# Altium schematic symbol library Micrel Parts.SchLib: 4 symbols
Pins are listed as number, name and electrical type; pins without a type are passive.

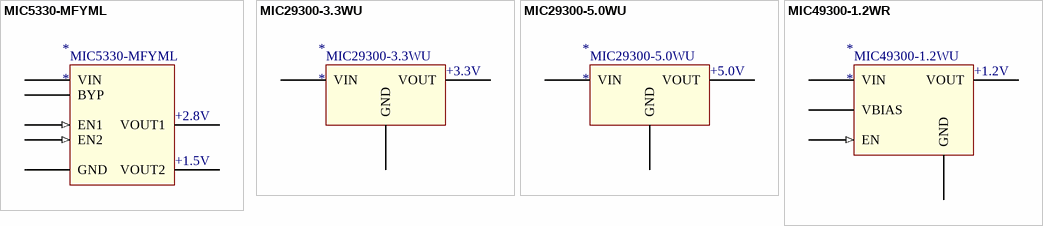
[diagram p0: symbols MIC5330-MFYML to MIC49300-1.2WR]

## MIC5330-MFYML
designator *
Dual 300mA LDO (Lead Free Compliant)
footprint MIC5330-MFYML TR; pin to pad 0>1 1>2 2>3 3>4 4>5 5>6 6>7 7>8
pins: 0 VIN (power), 1 GND (power), 2 BYP (power), 3 EN2 (in), 4 EN1 (in), 5 NC hidden, 6 VOUT2 (power) "1.5V", 7 VOUT1 (power) "2.8V"
text: +2.8V; +1.5V

## MIC29300-3.3WU
designator *
3.0A LDO Fixed Volt.(ROHS Compliant)
footprint TO-263 D2PACK; pin to pad 0>1 1>2 2>3
pins: 0 VIN (power), 1 GND (power), 2 VOUT (power)
text: +3.3V

## MIC29300-5.0WU
designator *
3.0A LDO Fixed Volt.(ROHS Compliant)
footprint TO-263 D2PACK; pin to pad 0>1 1>2 2>3
pins: 0 VIN (power), 1 GND (power), 2 VOUT (power)
text: +5.0V

## MIC49300-1.2WR
designator *
Dual Supply, LV 3.0A LDO(ROHS Compliant)
footprint MIC49300-1.2WR SPACK-5; pin to pad 0>1 1>2 2>3 3>4 4>5
pins: 0 EN (in), 1 VBIAS (power), 2 GND (power), 3 VIN (power), 4 VOUT (power)
text: MIC49300-1.2WU; +1.2V